# Altium schematic symbol library B4B-PH-SM4-TB.SchLib: 1 symbol
Pins are listed as number, name and electrical type; pins without a type are passive.

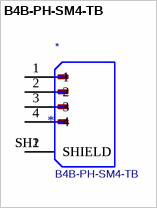
[diagram p0: symbol B4B-PH-SM4-TB]

## B4B-PH-SM4-TB
designator *  value B4B-PH-SM4-TB
\n                        \n                            Connector Header Surface Mount 4 position 0.079 (2.00mm)\n                        \n; MANUFACTURER: JST; MF: JST Sales; Footprint: B4B-PH-SM4-TB:JST_B4B-PH-SM4-TB; MAXIMUM_PACKAGE_HEIGHT: 6.6mm; Package: NON STANDARD-4 JST; Price: None; Check_prices: https://www.snapeda.com/parts/B4B-PH-SM4-TB/JST/view-part/?ref=eda; STANDARD: Manufacturer Recommendations; PARTREV: N/A; SnapEDA_Link: https://www.snapeda.com/parts/B4B-PH-SM4-TB/JST/view-part/?ref=snap; MP: B4B-PH-SM4-TB; Description_: \n                        \n                            Connector Header Surface Mount 4 position 0.079 (2.00mm)\n                        \n; Availability: In Stock; SNAPEDA_PN: B4B-PH-SM4-TB
footprint JST_B4B-PH-SM4-TB
pins: 1, 2, 3, 4, SH1 SHIELD, SH2 SHIELD